# EAGLE library part AD5689R (library analog-devices)
Connect-List generated from AD5687R.DEV Variant BCPZ-RL7 with split-device-symbol.ulp
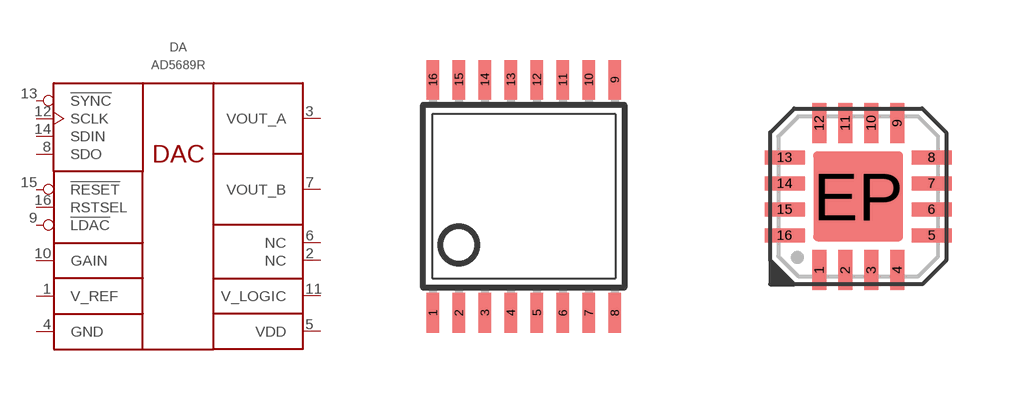
[diagram p18: symbol with the pads of TSSOP16; footprints TSSOP16, LFCSP-16]

Designator prefix DA

## AD5689RARUZ  [TSSOP16]
1  V_REF  pas
2  NC  nc
3  VOUT_A  out
4  GND  pwr
5  VDD  pwr
6  NC  nc
7  VOUT_B  out
8  SDO  out
9  !LDAC  in
10  GAIN  pas
11  V_LOGIC  pwr
12  SCLK  in
13  !SYNC  in
14  SDIN  in
15  !RESET  in
16  RSTSEL  out

## AD5689RACPZ-RL7  [LFCSP-16]
1  VOUT_A  out
2  GND  pwr
3  VDD  pwr
4  NC  nc
5  VOUT_B  out
6  SDO  out
7  !LDAC  in
8  GAIN  pas
9  V_LOGIC  pwr
10  SCLK  in
11  !SYNC  in
12  SDIN  in
13  !RESET  in
14  RSTSEL  out
15  V_REF  pas
16  NC  nc

## AD5689RBCPZ-RL7  [LFCSP-16]
Pads as for LFCSP-16

## AD5689RARUZ-RL7  [TSSOP16]
Pads as for TSSOP16

## AD5689RBRUZ  [TSSOP16]
Pads as for LFCSP-16

## AD5689RBRUZ-RL7  [TSSOP16]
Pads as for LFCSP-16

## Footprint TSSOP16 (pad centres in mm)
Thin Shrink Small Outline Plastic 16 MAX3223-MAX3243.pdf
smd 0.305 x 0.991: 1 -2.275,-2.918; 2 -1.625,-2.918; 3 -0.975,-2.918; 4 -0.325,-2.918; 5 0.325,-2.918; 6 0.975,-2.918; 7 1.625,-2.918; 8 2.275,-2.918; 9 2.275,2.918; 10 1.625,2.918; 11 0.975,2.918; 12 0.325,2.918; 13 -0.325,2.918; 14 -0.975,2.918; 15 -1.625,2.918; 16 -2.275,2.918

## Footprint LFCSP-16 (pad centres in mm)
smd 0.35 x 1: 1 -0.975,-1.84; 2 -0.325,-1.84; 3 0.325,-1.84; 4 0.975,-1.84; 9 0.975,1.84; 10 0.325,1.84; 11 -0.325,1.84; 12 -0.975,1.84
smd 1 x 0.35: 5 1.84,-0.975; 6 1.84,-0.325; 7 1.84,0.325; 8 1.84,0.975; 13 -1.84,0.975; 14 -1.84,0.325; 15 -1.84,-0.325; 16 -1.84,-0.975
smd 2.25 x 2.25: EP 0,0